# EAGLE library part MPU6050 (library accel)
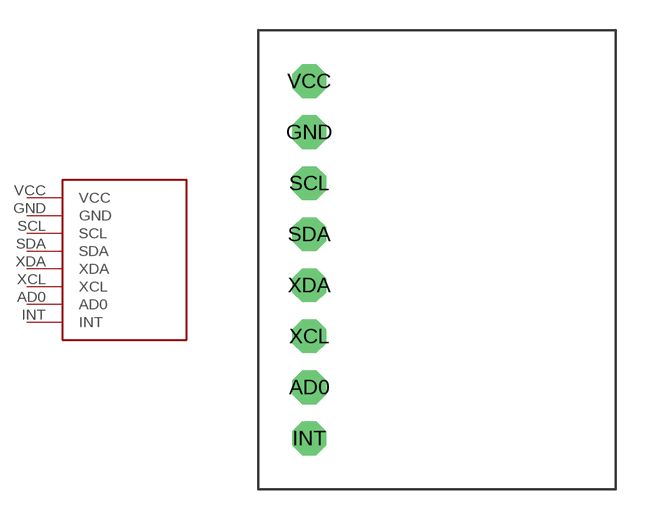
[diagram p0: symbol with the pads of MPU6050; footprint MPU6050]

Designator prefix -

## MPU6050  [MPU6050]
AD0  AD0
GND  GND
INT  INT
SCL  SCL
SDA  SDA
VCC  VCC
XCL  XCL
XDA  XDA

## Footprint MPU6050 (pad centres in mm)
drill 0.85 pad 1.676 octagon: AD0 0,-12.7; GND 0,0; INT 0,-15.24; SCL 0,-2.54; SDA 0,-5.08; VCC 0,2.54; XCL 0,-10.16; XDA 0,-7.62